# Altium integrated library Capacitors - Ceramic - 0402.IntLib: 4569 symbols (part 100 of 100)
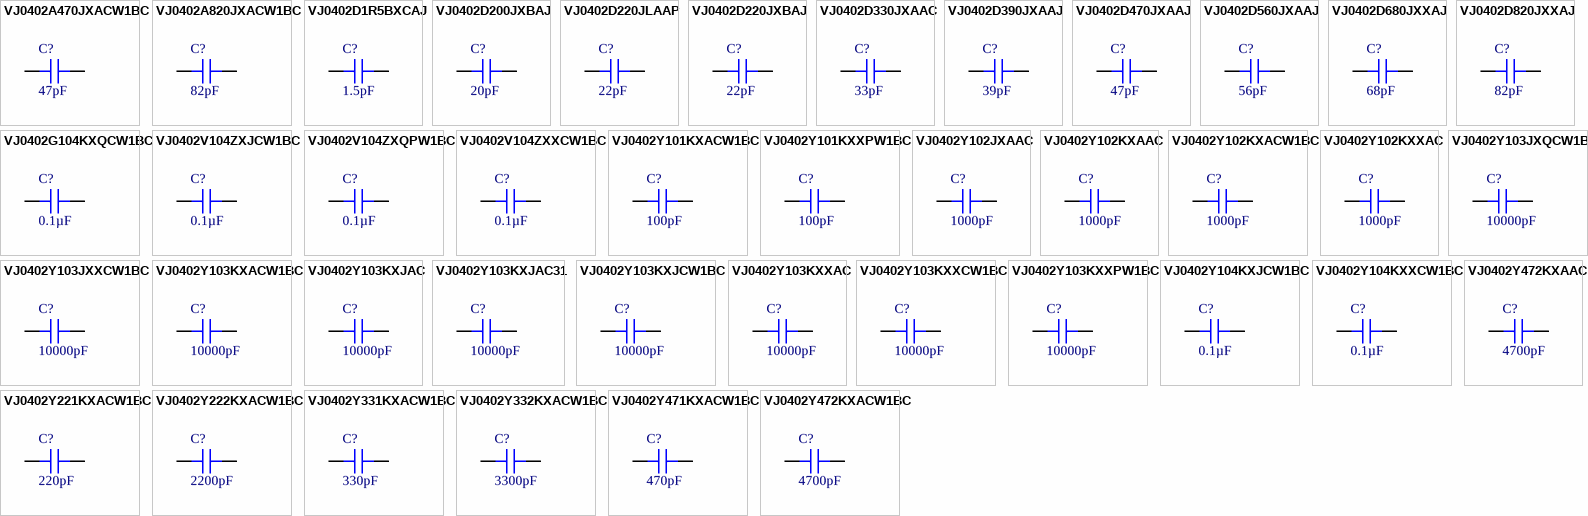
[diagram p213: symbols VJ0402A470JXACW1BC to VJ0402Y472KXACW1BC]

## VJ0402Y103KXXAC
designator C?, comment 10000pF
CAP CER 10000PF 25V X7R 0402; Part Number: VJ0402Y103KXXAC; Manufacturer: Vishay Vitramon; Tolerance: ±10%; Value: 10000pF; Applications: General Purpose; Capacitance: 10000pF; ComponentLink1Description: Datasheet; ComponentLink1URL: http://www.vishay.com/docs/45199/vjcommercialseries.pdf; ComponentLink2Description: DigiKey Link; ComponentLink2URL: http://digikey.com/product-detail/en/vishay-vitramon/VJ0402Y103KXXAC/720-1362-1-ND/3986116; Device Package: 0402 (1005 Metric); LastUpdated: 9/2/2020 1:02:14 AM; Lifecycle Status: Active; Minimum Order: 1; Mounting Type: Surface Mount, MLCC; Operating Temperature: -55°C ~ 125°C; Package / Case: 0402 (1005 Metric); Packaging: TapeAndReel; PartId: 6349; Part Status: Active; Price: 0.07; Series: VJ; Size / Dimension: 0.039" L x 0.020" W (1.00mm x 0.50mm); Supplier 1: DigiKey; Supplier Part Number 1: 720-1362-1-ND; Temperature Coefficient: X7R; Thickness (Max): 0.024" (0.60mm); Voltage - Rated: 25V
footprint CAP 0402_1005
pins: 1, 2

## VJ0402Y103KXXCW1BC
designator C?, comment 10000pF
CAP CER 10000PF 25V X7R 0402; Part Number: VJ0402Y103KXXCW1BC; Manufacturer: Vishay Vitramon; Tolerance: ±10%; Value: 10000pF; Applications: General Purpose; Capacitance: 10000pF; ComponentLink1Description: Datasheet; ComponentLink1URL: https://www.vishay.com/docs/28548/vjw1bcbascomseries.pdf; ComponentLink2Description: DigiKey Link; ComponentLink2URL: http://digikey.com/product-detail/en/vishay-vitramon/VJ0402Y103KXXCW1BC/720-1647-1-ND/8324067; Device Package: 0402 (1005 Metric); LastUpdated: 9/2/2020 1:02:09 AM; Lifecycle Status: Active; Minimum Order: 1; Mounting Type: Surface Mount, MLCC; Operating Temperature: -55°C ~ 125°C; Package / Case: 0402 (1005 Metric); Packaging: TapeAndReel; PartId: 8843; Part Status: Active; Price: 0.01; Series: VJ; Size / Dimension: 0.039" L x 0.020" W (1.00mm x 0.50mm); Supplier 1: DigiKey; Supplier Part Number 1: 720-1647-1-ND; Temperature Coefficient: X7R; Thickness (Max): 0.022" (0.55mm); Voltage - Rated: 25V
footprint CAP 0402_1005
pins: 1, 2

## VJ0402Y103KXXPW1BC
designator C?, comment 10000pF
CAP CER 10000PF 25V X7R 0402; Part Number: VJ0402Y103KXXPW1BC; Manufacturer: Vishay Vitramon; Tolerance: ±10%; Value: 10000pF; Applications: General Purpose; Capacitance: 10000pF; ComponentLink1Description: Datasheet; ComponentLink1URL: https://www.vishay.com/docs/28548/vjw1bcbascomseries.pdf; ComponentLink2Description: DigiKey Link; ComponentLink2URL: http://digikey.com/product-detail/en/vishay-vitramon/VJ0402Y103KXXPW1BC/720-VJ0402Y103KXXPW1BCCT-ND/11198266; Device Package: 0402 (1005 Metric); LastUpdated: 9/2/2020 1:01:10 AM; Lifecycle Status: Active; Minimum Order: 1; Mounting Type: Surface Mount, MLCC; Operating Temperature: -55°C ~ 125°C; Package / Case: 0402 (1005 Metric); Packaging: TapeAndReel; PartId: 26180; Part Status: Active; Price: 0.01; Series: VJ; Supplier 1: DigiKey; Supplier Part Number 1: 720-VJ0402Y103KXXPW1BCCT-ND; Temperature Coefficient: X7R; Voltage - Rated: 25V
footprint CAP 0402_1005
pins: 1, 2

## VJ0402Y104KXJCW1BC
designator C?, comment 0.1µF
CAP CER 0.1UF 16V X7R 0402; Part Number: VJ0402Y104KXJCW1BC; Manufacturer: Vishay Vitramon; Tolerance: ±10%; Value: 0.1µF; Applications: General Purpose; Capacitance: 0.1µF; ComponentLink1Description: Datasheet; ComponentLink1URL: https://www.vishay.com/docs/28548/vjw1bcbascomseries.pdf; ComponentLink2Description: DigiKey Link; ComponentLink2URL: http://digikey.com/product-detail/en/vishay-vitramon/VJ0402Y104KXJCW1BC/720-VJ0402Y104KXJCW1BCCT-ND/11198149; Device Package: 0402 (1005 Metric); LastUpdated: 9/2/2020 1:01:09 AM; Lifecycle Status: Active; Minimum Order: 1; Mounting Type: Surface Mount, MLCC; Operating Temperature: -55°C ~ 125°C; Package / Case: 0402 (1005 Metric); Packaging: TapeAndReel; PartId: 26166; Part Status: Active; Price: 0.02; Series: VJ; Supplier 1: DigiKey; Supplier Part Number 1: 720-VJ0402Y104KXJCW1BCCT-ND; Temperature Coefficient: X7R; Voltage - Rated: 16V
footprint CAP 0402_1005
pins: 1, 2

## VJ0402Y104KXXCW1BC
designator C?, comment 0.1µF
CAP CER 0.1UF 25V X7R 0402; Part Number: VJ0402Y104KXXCW1BC; Manufacturer: Vishay Vitramon; Tolerance: ±10%; Value: 0.1µF; Applications: General Purpose; Capacitance: 0.1µF; ComponentLink1Description: Datasheet; ComponentLink1URL: http://www.vishay.com/docs/28548/vjw1bcbascomseries.pdf; ComponentLink2Description: DigiKey Link; ComponentLink2URL: http://digikey.com/product-detail/en/vishay-vitramon/VJ0402Y104KXXCW1BC/720-1850-1-ND/9681494; Device Package: 0402 (1005 Metric); LastUpdated: 9/2/2020 1:02:21 AM; Lifecycle Status: Active; Minimum Order: 1; Mounting Type: Surface Mount, MLCC; Operating Temperature: -55°C ~ 125°C; Package / Case: 0402 (1005 Metric); Packaging: TapeAndReel; PartId: 3382; Part Status: Active; Price: 0.01; Series: VJ; Size / Dimension: 0.039" L x 0.020" W (1.00mm x 0.50mm); Supplier 1: DigiKey; Supplier Part Number 1: 720-1850-1-ND; Temperature Coefficient: X7R; Thickness (Max): 0.022" (0.55mm); Voltage - Rated: 25V
footprint CAP 0402_1005
pins: 1, 2

## VJ0402Y221KXACW1BC
designator C?, comment 220pF
CAP CER 220PF 50V X7R 0402; Part Number: VJ0402Y221KXACW1BC; Manufacturer: Vishay Vitramon; Tolerance: ±10%; Value: 220pF; Applications: General Purpose; Capacitance: 220pF; ComponentLink1Description: Datasheet; ComponentLink1URL: https://www.vishay.com/docs/28548/vjw1bcbascomseries.pdf; ComponentLink2Description: DigiKey Link; ComponentLink2URL: http://digikey.com/product-detail/en/vishay-vitramon/VJ0402Y221KXACW1BC/720-1616-1-ND/420962; Device Package: 0402 (1005 Metric); LastUpdated: 9/2/2020 1:02:11 AM; Lifecycle Status: Active; Minimum Order: 1; Mounting Type: Surface Mount, MLCC; Operating Temperature: -55°C ~ 125°C; Package / Case: 0402 (1005 Metric); Packaging: TapeAndReel; PartId: 7878; Part Status: Active; Price: 0.02; Series: VJ; Size / Dimension: 0.039" L x 0.020" W (1.00mm x 0.50mm); Supplier 1: DigiKey; Supplier Part Number 1: 720-1616-1-ND; Temperature Coefficient: X7R; Thickness (Max): 0.022" (0.55mm); Voltage - Rated: 50V
footprint CAP 0402_1005
pins: 1, 2

## VJ0402Y222KXACW1BC
designator C?, comment 2200pF
CAP CER 2200PF 50V X7R 0402; Part Number: VJ0402Y222KXACW1BC; Manufacturer: Vishay Vitramon; Tolerance: ±10%; Value: 2200pF; Applications: General Purpose; Capacitance: 2200pF; ComponentLink1Description: Datasheet; ComponentLink1URL: https://www.vishay.com/docs/28548/vjw1bcbascomseries.pdf; ComponentLink2Description: DigiKey Link; ComponentLink2URL: http://digikey.com/product-detail/en/vishay-vitramon/VJ0402Y222KXACW1BC/720-1522-1-ND/420970; Device Package: 0402 (1005 Metric); LastUpdated: 9/2/2020 1:02:11 AM; Lifecycle Status: Active; Minimum Order: 1; Mounting Type: Surface Mount, MLCC; Operating Temperature: -55°C ~ 125°C; Package / Case: 0402 (1005 Metric); Packaging: TapeAndReel; PartId: 7721; Part Status: Active; Price: 0.02; Series: VJ; Size / Dimension: 0.039" L x 0.020" W (1.00mm x 0.50mm); Supplier 1: DigiKey; Supplier Part Number 1: 720-1522-1-ND; Temperature Coefficient: X7R; Thickness (Max): 0.022" (0.55mm); Voltage - Rated: 50V
footprint CAP 0402_1005
pins: 1, 2

## VJ0402Y331KXACW1BC
designator C?, comment 330pF
CAP CER 330PF 50V X7R 0402; Part Number: VJ0402Y331KXACW1BC; Manufacturer: Vishay Vitramon; Tolerance: ±10%; Value: 330pF; Applications: General Purpose; Capacitance: 330pF; ComponentLink1Description: Datasheet; ComponentLink1URL: https://www.vishay.com/docs/28548/vjw1bcbascomseries.pdf; ComponentLink2Description: DigiKey Link; ComponentLink2URL: http://digikey.com/product-detail/en/vishay-vitramon/VJ0402Y331KXACW1BC/BC1206TR-ND/420821; Device Package: 0402 (1005 Metric); LastUpdated: 9/2/2020 1:01:10 AM; Lifecycle Status: Active; Minimum Order: 10000; Mounting Type: Surface Mount, MLCC; Operating Temperature: -55°C ~ 125°C; Package / Case: 0402 (1005 Metric); Packaging: TapeAndReel; PartId: 26175; Part Status: Active; Price: 0.02; Series: VJ; Supplier 1: DigiKey; Supplier Part Number 1: BC1206TR-ND; Temperature Coefficient: X7R; Voltage - Rated: 50V
footprint CAP 0402_1005
pins: 1, 2

## VJ0402Y332KXACW1BC
designator C?, comment 3300pF
CAP CER 3300PF 50V X7R 0402; Part Number: VJ0402Y332KXACW1BC; Manufacturer: Vishay Vitramon; Tolerance: ±10%; Value: 3300pF; Applications: General Purpose; Capacitance: 3300pF; ComponentLink1Description: Datasheet; ComponentLink1URL: https://www.vishay.com/docs/28548/vjw1bcbascomseries.pdf; ComponentLink2Description: DigiKey Link; ComponentLink2URL: http://digikey.com/product-detail/en/vishay-vitramon/VJ0402Y332KXACW1BC/720-VJ0402Y332KXACW1BCCT-ND/11198465; Device Package: 0402 (1005 Metric); LastUpdated: 9/2/2020 1:01:11 AM; Lifecycle Status: Active; Minimum Order: 1; Mounting Type: Surface Mount, MLCC; Operating Temperature: -55°C ~ 125°C; Package / Case: 0402 (1005 Metric); Packaging: TapeAndReel; PartId: 26182; Part Status: Active; Price: 0.01; Series: VJ; Supplier 1: DigiKey; Supplier Part Number 1: 720-VJ0402Y332KXACW1BCCT-ND; Temperature Coefficient: X7R; Voltage - Rated: 50V
footprint CAP 0402_1005
pins: 1, 2

## VJ0402Y471KXACW1BC
designator C?, comment 470pF
CAP CER 470PF 50V X7R 0402; Part Number: VJ0402Y471KXACW1BC; Manufacturer: Vishay Vitramon; Tolerance: ±10%; Value: 470pF; Applications: General Purpose; Capacitance: 470pF; ComponentLink1Description: Datasheet; ComponentLink1URL: https://www.vishay.com/docs/28548/vjw1bcbascomseries.pdf; ComponentLink2Description: DigiKey Link; ComponentLink2URL: http://digikey.com/product-detail/en/vishay-vitramon/VJ0402Y471KXACW1BC/720-1521-1-ND/420964; Device Package: 0402 (1005 Metric); LastUpdated: 9/2/2020 1:02:11 AM; Lifecycle Status: Active; Minimum Order: 1; Mounting Type: Surface Mount, MLCC; Operating Temperature: -55°C ~ 125°C; Package / Case: 0402 (1005 Metric); Packaging: TapeAndReel; PartId: 7669; Part Status: Active; Price: 0.01; Series: VJ; Size / Dimension: 0.039" L x 0.020" W (1.00mm x 0.50mm); Supplier 1: DigiKey; Supplier Part Number 1: 720-1521-1-ND; Temperature Coefficient: X7R; Thickness (Max): 0.022" (0.55mm); Voltage - Rated: 50V
footprint CAP 0402_1005
pins: 1, 2

## VJ0402Y472KXAAC
designator C?, comment 4700pF
CAP CER 4700PF 50V X7R 0402; Part Number: VJ0402Y472KXAAC; Manufacturer: Vishay Vitramon; Tolerance: ±10%; Value: 4700pF; Applications: General Purpose; Capacitance: 4700pF; ComponentLink1Description: Datasheet; ComponentLink1URL: http://www.vishay.com/docs/45199/vjcommercialseries.pdf; ComponentLink2Description: DigiKey Link; ComponentLink2URL: http://digikey.com/product-detail/en/vishay-vitramon/VJ0402Y472KXAAC/720-1900-1-ND/9742675; Device Package: 0402 (1005 Metric); LastUpdated: 9/2/2020 1:01:11 AM; Lifecycle Status: Active; Minimum Order: 1; Mounting Type: Surface Mount, MLCC; Operating Temperature: -55°C ~ 150°C; Package / Case: 0402 (1005 Metric); Packaging: TapeAndReel; PartId: 26188; Part Status: Active; Price: 0.08; Series: VJ; Supplier 1: DigiKey; Supplier Part Number 1: 720-1900-1-ND; Temperature Coefficient: X7R; Voltage - Rated: 50V
footprint CAP 0402_1005
pins: 1, 2

## VJ0402Y472KXACW1BC
designator C?, comment 4700pF
CAP CER 4700PF 50V X7R 0402; Part Number: VJ0402Y472KXACW1BC; Manufacturer: Vishay Vitramon; Tolerance: ±10%; Value: 4700pF; Applications: General Purpose; Capacitance: 4700pF; ComponentLink1Description: Datasheet; ComponentLink1URL: https://www.vishay.com/docs/28548/vjw1bcbascomseries.pdf; ComponentLink2Description: DigiKey Link; ComponentLink2URL: http://digikey.com/product-detail/en/vishay-vitramon/VJ0402Y472KXACW1BC/720-VJ0402Y472KXACW1BCCT-ND/11198466; Device Package: 0402 (1005 Metric); LastUpdated: 9/2/2020 1:01:09 AM; Lifecycle Status: Active; Minimum Order: 1; Mounting Type: Surface Mount, MLCC; Operating Temperature: -55°C ~ 125°C; Package / Case: 0402 (1005 Metric); Packaging: TapeAndReel; PartId: 26169; Part Status: Active; Price: 0.02; Series: VJ; Supplier 1: DigiKey; Supplier Part Number 1: 720-VJ0402Y472KXACW1BCCT-ND; Temperature Coefficient: X7R; Voltage - Rated: 50V
footprint CAP 0402_1005
pins: 1, 2

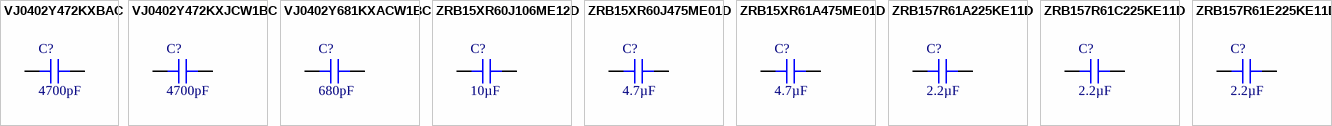
[diagram p114: symbols VJ0402Y472KXBAC to ZRB157R61E225KE11D]

## VJ0402Y472KXBAC
designator C?, comment 4700pF
CAP CER 4700PF 100V X7R 0402; Part Number: VJ0402Y472KXBAC; Manufacturer: Vishay Vitramon; Tolerance: ±10%; Value: 4700pF; Applications: General Purpose; Capacitance: 4700pF; ComponentLink1Description: Datasheet; ComponentLink1URL: http://www.vishay.com/docs/45199/vjcommercialseries.pdf; ComponentLink2Description: DigiKey Link; ComponentLink2URL: http://digikey.com/product-detail/en/vishay-vitramon/VJ0402Y472KXBAC/720-1648-1-ND/8324068; Device Package: 0402 (1005 Metric); LastUpdated: 9/2/2020 1:01:08 AM; Lifecycle Status: Active; Minimum Order: 1; Mounting Type: Surface Mount, MLCC; Operating Temperature: -55°C ~ 150°C; Package / Case: 0402 (1005 Metric); Packaging: TapeAndReel; PartId: 26152; Part Status: Active; Price: 0.08; Series: VJ; Supplier 1: DigiKey; Supplier Part Number 1: 720-1648-1-ND; Temperature Coefficient: X7R; Voltage - Rated: 100V
footprint CAP 0402_1005
pins: 1, 2

## VJ0402Y472KXJCW1BC
designator C?, comment 4700pF
CAP CER 4700PF 16V X7R 0402; Part Number: VJ0402Y472KXJCW1BC; Manufacturer: Vishay Vitramon; Tolerance: ±10%; Value: 4700pF; Applications: General Purpose; Capacitance: 4700pF; ComponentLink1Description: Datasheet; ComponentLink1URL: https://www.vishay.com/docs/28548/vjw1bcbascomseries.pdf; ComponentLink2Description: DigiKey Link; ComponentLink2URL: http://digikey.com/product-detail/en/vishay-vitramon/VJ0402Y472KXJCW1BC/BC1214TR-ND/420829; Device Package: 0402 (1005 Metric); LastUpdated: 9/2/2020 1:01:10 AM; Lifecycle Status: Active; Minimum Order: 10000; Mounting Type: Surface Mount, MLCC; Operating Temperature: -55°C ~ 125°C; Package / Case: 0402 (1005 Metric); Packaging: TapeAndReel; PartId: 26173; Part Status: Active; Price: 0.02; Series: VJ; Supplier 1: DigiKey; Supplier Part Number 1: BC1214TR-ND; Temperature Coefficient: X7R; Voltage - Rated: 16V
footprint CAP 0402_1005
pins: 1, 2

## VJ0402Y681KXACW1BC
designator C?, comment 680pF
CAP CER 680PF 50V X7R 0402; Part Number: VJ0402Y681KXACW1BC; Manufacturer: Vishay Vitramon; Tolerance: ±10%; Value: 680pF; Applications: General Purpose; Capacitance: 680pF; ComponentLink1Description: Datasheet; ComponentLink1URL: https://www.vishay.com/docs/28548/vjw1bcbascomseries.pdf; ComponentLink2Description: DigiKey Link; ComponentLink2URL: http://digikey.com/product-detail/en/vishay-vitramon/VJ0402Y681KXACW1BC/BC1209TR-ND/420824; Device Package: 0402 (1005 Metric); LastUpdated: 9/2/2020 1:01:10 AM; Lifecycle Status: Active; Minimum Order: 10000; Mounting Type: Surface Mount, MLCC; Operating Temperature: -55°C ~ 125°C; Package / Case: 0402 (1005 Metric); Packaging: TapeAndReel; PartId: 26174; Part Status: Active; Price: 0.02; Series: VJ; Supplier 1: DigiKey; Supplier Part Number 1: BC1209TR-ND; Temperature Coefficient: X7R; Voltage - Rated: 50V
footprint CAP 0402_1005
pins: 1, 2

## ZRB15XR60J106ME12D
designator C?, comment 10µF
CAP CER 10UF 6.3V X5R 0402; Part Number: ZRB15XR60J106ME12D; Manufacturer: Murata Electronics; Tolerance: ±20%; Value: 10µF; Applications: Acoustic Noise Reduction; Capacitance: 10µF; ComponentLink1Description: Datasheet; ComponentLink1URL: https://psearch.en.murata.com/capacitor/product/ZRB15XR60J106ME12%23.pdf; ComponentLink2Description: DigiKey Link; ComponentLink2URL: http://digikey.com/product-detail/en/murata-electronics/ZRB15XR60J106ME12D/490-13251-1-ND/5877459; Device Package: 0402 (1005 Metric); Features: Interposer Termination; LastUpdated: 9/2/2020 1:02:15 AM; Lifecycle Status: Active; Minimum Order: 1; Mounting Type: Surface Mount, MLCC; Operating Temperature: -55°C ~ 85°C; Package / Case: 0402 (1005 Metric); Packaging: TapeAndReel; PartId: 6019; Part Status: Active; Price: 0.05; Series: ZRB; Size / Dimension: 0.039" L x 0.020" W (1.00mm x 0.50mm); Supplier 1: DigiKey; Supplier Part Number 1: 490-13251-1-ND; Temperature Coefficient: X5R; Thickness (Max): 0.031" (0.80mm); Voltage - Rated: 6.3V
footprint CAP 0402_1005
pins: 1, 2

## ZRB15XR60J475ME01D
designator C?, comment 4.7µF
CAP CER 4.7UF 6.3V X5R 0402; Part Number: ZRB15XR60J475ME01D; Manufacturer: Murata Electronics; Tolerance: ±20%; Value: 4.7µF; Applications: Acoustic Noise Reduction; Capacitance: 4.7µF; ComponentLink1Description: Datasheet; ComponentLink1URL: https://search.murata.co.jp/Ceramy/image/img/A01X/G101/ENG/ZRB15XR60J475ME01-01.pdf; ComponentLink2Description: DigiKey Link; ComponentLink2URL: http://digikey.com/product-detail/en/murata-electronics/ZRB15XR60J475ME01D/490-10983-1-ND/5321184; Device Package: 0402 (1005 Metric); Features: Interposer Termination; LastUpdated: 9/2/2020 1:02:12 AM; Lifecycle Status: Active; Minimum Order: 1; Mounting Type: Surface Mount, MLCC; Operating Temperature: -55°C ~ 85°C; Package / Case: 0402 (1005 Metric); Packaging: TapeAndReel; PartId: 7172; Part Status: Active; Price: 0.07; Series: ZRB; Size / Dimension: 0.039" L x 0.020" W (1.00mm x 0.50mm); Supplier 1: DigiKey; Supplier Part Number 1: 490-10983-1-ND; Temperature Coefficient: X5R; Thickness (Max): 0.031" (0.80mm); Voltage - Rated: 6.3V
footprint CAP 0402_1005
pins: 1, 2

## ZRB15XR61A475ME01D
designator C?, comment 4.7µF
CAP CER 4.7UF 10V X5R 0402; Part Number: ZRB15XR61A475ME01D; Manufacturer: Murata Electronics; Tolerance: ±20%; Value: 4.7µF; Applications: Acoustic Noise Reduction; Capacitance: 4.7µF; ComponentLink1Description: Datasheet; ComponentLink1URL: https://search.murata.co.jp/Ceramy/image/img/A01X/G101/ENG/ZRB15XR61A475ME01-01.pdf; ComponentLink2Description: DigiKey Link; ComponentLink2URL: http://digikey.com/product-detail/en/murata-electronics/ZRB15XR61A475ME01D/490-10984-1-ND/5321185; Device Package: 0402 (1005 Metric); Features: Derating Recommended, Interposer Termination; LastUpdated: 9/2/2020 1:02:09 AM; Lifecycle Status: Active; Minimum Order: 1; Mounting Type: Surface Mount, MLCC; Operating Temperature: -55°C ~ 85°C; Package / Case: 0402 (1005 Metric); Packaging: TapeAndReel; PartId: 8625; Part Status: Active; Price: 0.07; Series: ZRB; Size / Dimension: 0.039" L x 0.020" W (1.00mm x 0.50mm); Supplier 1: DigiKey; Supplier Part Number 1: 490-10984-1-ND; Temperature Coefficient: X5R; Thickness (Max): 0.031" (0.80mm); Voltage - Rated: 10V
footprint CAP 0402_1005
pins: 1, 2

## ZRB157R61A225KE11D
designator C?, comment 2.2µF
CAP CER 2.2UF 10V X5R 0402; Part Number: ZRB157R61A225KE11D; Manufacturer: Murata Electronics; Tolerance: ±10%; Value: 2.2µF; Applications: Acoustic Noise Reduction; Capacitance: 2.2µF; ComponentLink1Description: Datasheet; ComponentLink1URL: https://search.murata.co.jp/Ceramy/image/img/A01X/G101/ENG/ZRB157R61A225KE11-01.pdf; ComponentLink2Description: DigiKey Link; ComponentLink2URL: http://digikey.com/product-detail/en/murata-electronics/ZRB157R61A225KE11D/490-10980-1-ND/5321181; Device Package: 0402 (1005 Metric); Features: Interposer Termination; LastUpdated: 9/2/2020 1:02:06 AM; Lifecycle Status: Active; Minimum Order: 1; Mounting Type: Surface Mount, MLCC; Operating Temperature: -55°C ~ 85°C; Package / Case: 0402 (1005 Metric); Packaging: TapeAndReel; PartId: 10184; Part Status: Active; Price: 0.06; Series: ZRB; Size / Dimension: 0.039" L x 0.020" W (1.00mm x 0.50mm); Supplier 1: DigiKey; Supplier Part Number 1: 490-10980-1-ND; Temperature Coefficient: X5R; Thickness (Max): 0.033" (0.85mm); Voltage - Rated: 10V
footprint CAP 0402_1005
pins: 1, 2

## ZRB157R61C225KE11D
designator C?, comment 2.2µF
CAP CER 2.2UF 16V X5R 0402; Part Number: ZRB157R61C225KE11D; Manufacturer: Murata Electronics; Tolerance: ±10%; Value: 2.2µF; Applications: Acoustic Noise Reduction; Capacitance: 2.2µF; ComponentLink1Description: Datasheet; ComponentLink1URL: https://search.murata.co.jp/Ceramy/image/img/A01X/G101/ENG/ZRB157R61C225KE11-01.pdf; ComponentLink2Description: DigiKey Link; ComponentLink2URL: http://digikey.com/product-detail/en/murata-electronics/ZRB157R61C225KE11D/490-10981-1-ND/5321182; Device Package: 0402 (1005 Metric); Features: Interposer Termination; LastUpdated: 9/2/2020 1:02:06 AM; Lifecycle Status: Active; Minimum Order: 1; Mounting Type: Surface Mount, MLCC; Operating Temperature: -55°C ~ 85°C; Package / Case: 0402 (1005 Metric); Packaging: TapeAndReel; PartId: 10178; Part Status: Active; Price: 0.06; Series: ZRB; Size / Dimension: 0.039" L x 0.020" W (1.00mm x 0.50mm); Supplier 1: DigiKey; Supplier Part Number 1: 490-10981-1-ND; Temperature Coefficient: X5R; Thickness (Max): 0.033" (0.85mm); Voltage - Rated: 16V
footprint CAP 0402_1005
pins: 1, 2

## ZRB157R61E225KE11D
designator C?, comment 2.2µF
CAP CER 2.2UF 25V X5R 0402; Part Number: ZRB157R61E225KE11D; Manufacturer: Murata Electronics; Tolerance: ±10%; Value: 2.2µF; Applications: Acoustic Noise Reduction; Capacitance: 2.2µF; ComponentLink1Description: Datasheet; ComponentLink1URL: https://search.murata.co.jp/Ceramy/image/img/A01X/G101/ENG/ZRB157R61E225KE11-01.pdf; ComponentLink2Description: DigiKey Link; ComponentLink2URL: http://digikey.com/product-detail/en/murata-electronics/ZRB157R61E225KE11D/490-10982-1-ND/5321183; Device Package: 0402 (1005 Metric); Features: Interposer Termination; LastUpdated: 9/2/2020 1:02:09 AM; Lifecycle Status: Active; Minimum Order: 1; Mounting Type: Surface Mount, MLCC; Operating Temperature: -55°C ~ 85°C; Package / Case: 0402 (1005 Metric); Packaging: TapeAndReel; PartId: 8590; Part Status: Active; Price: 0.06; Series: ZRB; Size / Dimension: 0.039" L x 0.020" W (1.00mm x 0.50mm); Supplier 1: DigiKey; Supplier Part Number 1: 490-10982-1-ND; Temperature Coefficient: X5R; Thickness (Max): 0.033" (0.85mm); Voltage - Rated: 25V
footprint CAP 0402_1005
pins: 1, 2